# EAGLE library part CH340E (library hugo)
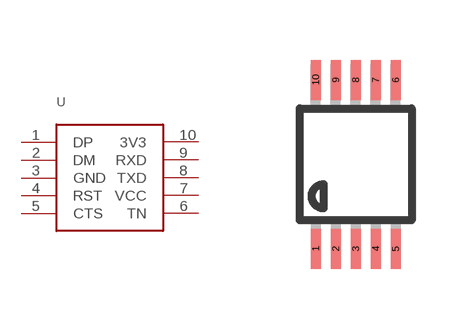
[diagram p4: symbol with the pads of MSOP10; footprint MSOP10]

Designator prefix -

## CH340E  [MSOP10]
1  DP
2  DM
3  GND
4  RST
5  CTS
6  TN
7  VCC
8  TXD
9  RXD
10  3V3

## Footprint MSOP10 (pad centres in mm)
smd 0.25 x 1: 1 -1,-2.113; 2 -0.5,-2.113; 3 0,-2.113; 4 0.5,-2.113; 5 1,-2.113; 6 1,2.113; 7 0.5,2.113; 8 0,2.113; 9 -0.5,2.113; 10 -1,2.113